# Altium footprint library potentiometers.PcbLib: 1 footprints
Each footprint in its own frame and in the unit in brackets; x right, y up, seen from the top. Pads: shape width x height; smd on the part's side, far side on the other; paste and mask are expansions set on the pad; w line width, h text height; cw(c..) or ccw(c..) is an arc to the next point about the centre after c.
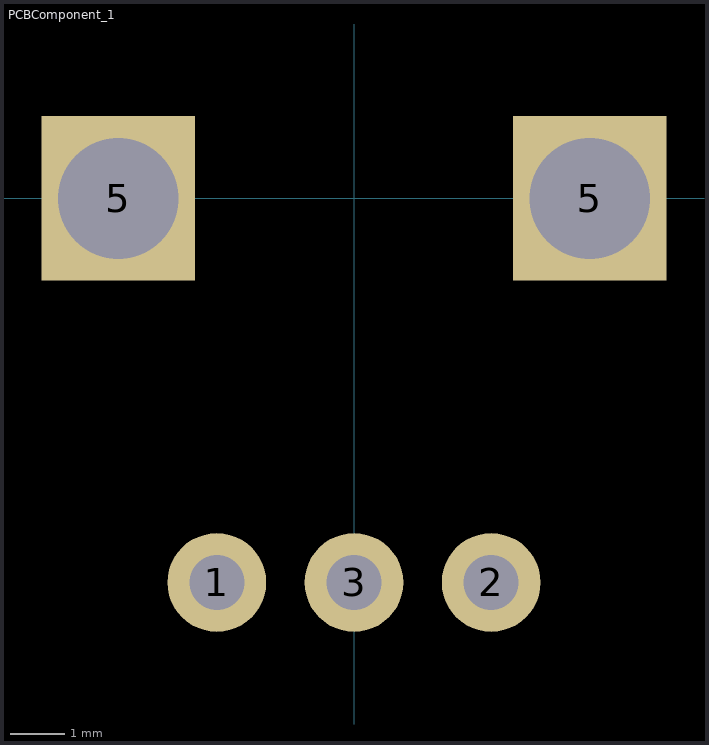
[diagram p0: the footprint, top view; thin cyan lines are the x and y axes]

## PCBComponent_1 [mm]
pads (5):
  round 1.8 hole 1: 1(-2.5,-7) 2(2.5,-7) 3(0,-7)
  rect 2.8x3 hole 2.2 square: 5(-4.3,0) 5(4.3,0)